# Altium integrated library WE-SPC SMD Shielded Power Inductor.IntLib: 53 symbols
Pins are listed as number, name and electrical type; pins without a type are passive.

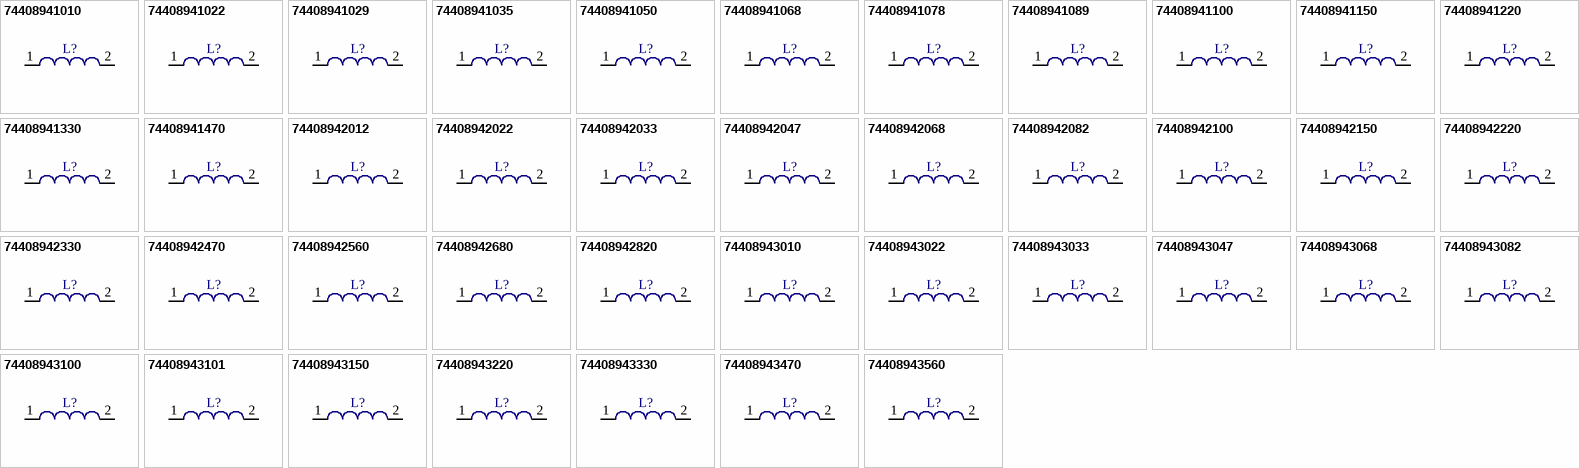
[diagram p0: symbols 74408941010 to 74408943560]

## 74408941010
designator L?
SMD Shielded Power Inductor WE-SPC, L=1.0 µH; PartNumber: 74408941010; Inductance: 1.0 µH; PackageReference: WE-SPC 4818; ComponentLink1Description: Manufacturer URL; ComponentLink1URL: http://www.we-online.com; ComponentLink2Description: Datasheet; ComponentLink2URL: http://katalog.we-online.de/kataloge/eisos/media/pdf/74408941010.pdf
footprint WE-SPC 4818 (SMD Inductor, 2- pin, Body 4.80 x 4.80mm)
pins: 1, 2

## 74408941022
designator L?
SMD Shielded Power Inductor WE-SPC, L=2.2 µH; PartNumber: 74408941022; Inductance: 2.2 µH; PackageReference: WE-SPC 4818; ComponentLink1Description: Manufacturer URL; ComponentLink1URL: http://www.we-online.com; ComponentLink2Description: Datasheet; ComponentLink2URL: http://katalog.we-online.de/kataloge/eisos/media/pdf/74408941022.pdf
footprint WE-SPC 4818 (SMD Inductor, 2- pin, Body 4.80 x 4.80mm)
pins: 1, 2

## 74408941029
designator L?
SMD Shielded Power Inductor WE-SPC, L=2.9 µH; PartNumber: 74408941029; Inductance: 2.9 µH; PackageReference: WE-SPC 4818; ComponentLink1Description: Manufacturer URL; ComponentLink1URL: http://www.we-online.com; ComponentLink2Description: Datasheet; ComponentLink2URL: http://katalog.we-online.de/kataloge/eisos/media/pdf/74408941029.pdf
footprint WE-SPC 4818 (SMD Inductor, 2- pin, Body 4.80 x 4.80mm)
pins: 1, 2

## 74408941035
designator L?
SMD Shielded Power Inductor WE-SPC, L=3.5 µH; PartNumber: 74408941035; Inductance: 3.5 µH; PackageReference: WE-SPC 4818; ComponentLink1Description: Manufacturer URL; ComponentLink1URL: http://www.we-online.com; ComponentLink2Description: Datasheet; ComponentLink2URL: http://katalog.we-online.de/kataloge/eisos/media/pdf/74408941035.pdf
footprint WE-SPC 4818 (SMD Inductor, 2- pin, Body 4.80 x 4.80mm)
pins: 1, 2

## 74408941050
designator L?
SMD Shielded Power Inductor WE-SPC, L=5.0 µH; PartNumber: 74408941050; Inductance: 5.0 µH; PackageReference: WE-SPC 4818; ComponentLink1Description: Manufacturer URL; ComponentLink1URL: http://www.we-online.com; ComponentLink2Description: Datasheet; ComponentLink2URL: http://katalog.we-online.de/kataloge/eisos/media/pdf/74408941050.pdf
footprint WE-SPC 4818 (SMD Inductor, 2- pin, Body 4.80 x 4.80mm)
pins: 1, 2

## 74408941068
designator L?
SMD Shielded Power Inductor WE-SPC, L=6.8 µH; PartNumber: 74408941068; Inductance: 6.8 µH; PackageReference: WE-SPC 4818; ComponentLink1Description: Manufacturer URL; ComponentLink1URL: http://www.we-online.com; ComponentLink2Description: Datasheet; ComponentLink2URL: http://katalog.we-online.de/kataloge/eisos/media/pdf/74408941068.pdf
footprint WE-SPC 4818 (SMD Inductor, 2- pin, Body 4.80 x 4.80mm)
pins: 1, 2

## 74408941078
designator L?
SMD Shielded Power Inductor WE-SPC, L=7.8 µH; PartNumber: 74408941078; Inductance: 7.8 µH; PackageReference: WE-SPC 4818; ComponentLink1Description: Manufacturer URL; ComponentLink1URL: http://www.we-online.com; ComponentLink2Description: Datasheet; ComponentLink2URL: http://katalog.we-online.de/kataloge/eisos/media/pdf/74408941078.pdf
footprint WE-SPC 4818 (SMD Inductor, 2- pin, Body 4.80 x 4.80mm)
pins: 1, 2

## 74408941089
designator L?
SMD Shielded Power Inductor WE-SPC, L=8.9 µH; PartNumber: 74408941089; Inductance: 7.8 µH; PackageReference: WE-SPC 4818; ComponentLink1Description: Manufacturer URL; ComponentLink1URL: http://www.we-online.com; ComponentLink2Description: Datasheet; ComponentLink2URL: http://katalog.we-online.de/kataloge/eisos/media/pdf/74408941089.pdf
footprint WE-SPC 4818 (SMD Inductor, 2- pin, Body 4.80 x 4.80mm)
pins: 1, 2

## 74408941100
designator L?
SMD Shielded Power Inductor WE-SPC, L=10 µH; PartNumber: 74408941100; Inductance: 10 µH; PackageReference: WE-SPC 4818; ComponentLink1Description: Manufacturer URL; ComponentLink1URL: http://www.we-online.com; ComponentLink2Description: Datasheet; ComponentLink2URL: http://katalog.we-online.de/kataloge/eisos/media/pdf/74408941100.pdf
footprint WE-SPC 4818 (SMD Inductor, 2- pin, Body 4.80 x 4.80mm)
pins: 1, 2

## 74408941150
designator L?
SMD Shielded Power Inductor WE-SPC, L=15 µH; PartNumber: 74408941150; Inductance: 15 µH; PackageReference: WE-SPC 4818; ComponentLink1Description: Manufacturer URL; ComponentLink1URL: http://www.we-online.com; ComponentLink2Description: Datasheet; ComponentLink2URL: http://katalog.we-online.de/kataloge/eisos/media/pdf/74408941150.pdf
footprint WE-SPC 4818 (SMD Inductor, 2- pin, Body 4.80 x 4.80mm)
pins: 1, 2

## 74408941220
designator L?
SMD Shielded Power Inductor WE-SPC, L=22 µH; PartNumber: 74408941220; Inductance: 22 µH; PackageReference: WE-SPC 4818; ComponentLink1Description: Manufacturer URL; ComponentLink1URL: http://www.we-online.com; ComponentLink2Description: Datasheet; ComponentLink2URL: http://katalog.we-online.de/kataloge/eisos/media/pdf/74408941220.pdf
footprint WE-SPC 4818 (SMD Inductor, 2- pin, Body 4.80 x 4.80mm)
pins: 1, 2

## 74408941330
designator L?
SMD Shielded Power Inductor WE-SPC, L=33 µH; PartNumber: 74408941330; Inductance: 33 µH; PackageReference: WE-SPC 4818; ComponentLink1Description: Manufacturer URL; ComponentLink1URL: http://www.we-online.com; ComponentLink2Description: Datasheet; ComponentLink2URL: http://katalog.we-online.de/kataloge/eisos/media/pdf/74408941330.pdf
footprint WE-SPC 4818 (SMD Inductor, 2- pin, Body 4.80 x 4.80mm)
pins: 1, 2

## 74408941470
designator L?
SMD Shielded Power Inductor WE-SPC, L=47 µH; PartNumber: 74408941470; Inductance: 47 µH; PackageReference: WE-SPC 4818; ComponentLink1Description: Manufacturer URL; ComponentLink1URL: http://www.we-online.com; ComponentLink2Description: Datasheet; ComponentLink2URL: http://katalog.we-online.de/kataloge/eisos/media/pdf/74408941470.pdf
footprint WE-SPC 4818 (SMD Inductor, 2- pin, Body 4.80 x 4.80mm)
pins: 1, 2

## 74408942012
designator L?
SMD Shielded Power Inductor WE-SPC, L=1.2 µH; PartNumber: 74408942012; Inductance: 1.2 µH; PackageReference: WE-SPC 4828; ComponentLink1Description: Manufacturer URL; ComponentLink1URL: http://www.we-online.com; ComponentLink2Description: Datasheet; ComponentLink2URL: http://katalog.we-online.de/kataloge/eisos/media/pdf/74408942012.pdf
footprint WE-SPC 4828 (SMD Inductor, 2- pin, Body 4.80 x 4.80mm)
pins: 1, 2

## 74408942022
designator L?
SMD Shielded Power Inductor WE-SPC, L=2.2 µH; PartNumber: 74408942022; Inductance: 2.2 µH; PackageReference: WE-SPC 4828; ComponentLink1Description: Manufacturer URL; ComponentLink1URL: http://www.we-online.com; ComponentLink2Description: Datasheet; ComponentLink2URL: http://katalog.we-online.de/kataloge/eisos/media/pdf/74408942022.pdf
footprint WE-SPC 4828 (SMD Inductor, 2- pin, Body 4.80 x 4.80mm)
pins: 1, 2

## 74408942033
designator L?
SMD Shielded Power Inductor WE-SPC, L=3.3 µH; PartNumber: 74408942033; Inductance: 3.3 µH; PackageReference: WE-SPC 4828; ComponentLink1Description: Manufacturer URL; ComponentLink1URL: http://www.we-online.com; ComponentLink2Description: Datasheet; ComponentLink2URL: http://katalog.we-online.de/kataloge/eisos/media/pdf/74408942033.pdf
footprint WE-SPC 4828 (SMD Inductor, 2- pin, Body 4.80 x 4.80mm)
pins: 1, 2

## 74408942047
designator L?
SMD Shielded Power Inductor WE-SPC, L=4.7 µH; PartNumber: 74408942047; Inductance: 4.7 µH; PackageReference: WE-SPC 4828; ComponentLink1Description: Manufacturer URL; ComponentLink1URL: http://www.we-online.com; ComponentLink2Description: Datasheet; ComponentLink2URL: http://katalog.we-online.de/kataloge/eisos/media/pdf/74408942047.pdf
footprint WE-SPC 4828 (SMD Inductor, 2- pin, Body 4.80 x 4.80mm)
pins: 1, 2

## 74408942068
designator L?
SMD Shielded Power Inductor WE-SPC, L=6.8 µH; PartNumber: 74408942068; Inductance: 6.8 µH; PackageReference: WE-SPC 4828; ComponentLink1Description: Manufacturer URL; ComponentLink1URL: http://www.we-online.com; ComponentLink2Description: Datasheet; ComponentLink2URL: http://katalog.we-online.de/kataloge/eisos/media/pdf/74408942068.pdf
footprint WE-SPC 4828 (SMD Inductor, 2- pin, Body 4.80 x 4.80mm)
pins: 1, 2

## 74408942082
designator L?
SMD Shielded Power Inductor WE-SPC, L=8.2 µH; PartNumber: 74408942082; Inductance: 8.2 µH; PackageReference: WE-SPC 4828; ComponentLink1Description: Manufacturer URL; ComponentLink1URL: http://www.we-online.com; ComponentLink2Description: Datasheet; ComponentLink2URL: http://katalog.we-online.de/kataloge/eisos/media/pdf/74408942082.pdf
footprint WE-SPC 4828 (SMD Inductor, 2- pin, Body 4.80 x 4.80mm)
pins: 1, 2

## 74408942100
designator L?
SMD Shielded Power Inductor WE-SPC, L=10 µH; PartNumber: 74408942100; Inductance: 10 µH; PackageReference: WE-SPC 4828; ComponentLink1Description: Manufacturer URL; ComponentLink1URL: http://www.we-online.com; ComponentLink2Description: Datasheet; ComponentLink2URL: http://katalog.we-online.de/kataloge/eisos/media/pdf/74408942100.pdf
footprint WE-SPC 4828 (SMD Inductor, 2- pin, Body 4.80 x 4.80mm)
pins: 1, 2

## 74408942150
designator L?
SMD Shielded Power Inductor WE-SPC, L=15 µH; PartNumber: 74408942150; Inductance: 15 µH; PackageReference: WE-SPC 4828; ComponentLink1Description: Manufacturer URL; ComponentLink1URL: http://www.we-online.com; ComponentLink2Description: Datasheet; ComponentLink2URL: http://katalog.we-online.de/kataloge/eisos/media/pdf/74408942150.pdf
footprint WE-SPC 4828 (SMD Inductor, 2- pin, Body 4.80 x 4.80mm)
pins: 1, 2

## 74408942220
designator L?
SMD Shielded Power Inductor WE-SPC, L=22 µH; PartNumber: 74408942220; Inductance: 22 µH; PackageReference: WE-SPC 4828; ComponentLink1Description: Manufacturer URL; ComponentLink1URL: http://www.we-online.com; ComponentLink2Description: Datasheet; ComponentLink2URL: http://katalog.we-online.de/kataloge/eisos/media/pdf/74408942220.pdf
footprint WE-SPC 4828 (SMD Inductor, 2- pin, Body 4.80 x 4.80mm)
pins: 1, 2

## 74408942330
designator L?
SMD Shielded Power Inductor WE-SPC, L=33 µH; PartNumber: 74408942330; Inductance: 33 µH; PackageReference: WE-SPC 4828; ComponentLink1Description: Manufacturer URL; ComponentLink1URL: http://www.we-online.com; ComponentLink2Description: Datasheet; ComponentLink2URL: http://katalog.we-online.de/kataloge/eisos/media/pdf/74408942330.pdf
footprint WE-SPC 4828 (SMD Inductor, 2- pin, Body 4.80 x 4.80mm)
pins: 1, 2

## 74408942470
designator L?
SMD Shielded Power Inductor WE-SPC, L=47 µH; PartNumber: 74408942470; Inductance: 47 µH; PackageReference: WE-SPC 4828; ComponentLink1Description: Manufacturer URL; ComponentLink1URL: http://www.we-online.com; ComponentLink2Description: Datasheet; ComponentLink2URL: http://katalog.we-online.de/kataloge/eisos/media/pdf/74408942470.pdf
footprint WE-SPC 4828 (SMD Inductor, 2- pin, Body 4.80 x 4.80mm)
pins: 1, 2

## 74408942560
designator L?
SMD Shielded Power Inductor WE-SPC, L=56 µH; PartNumber: 74408942560; Inductance: 56 µH; PackageReference: WE-SPC 4828; ComponentLink1Description: Manufacturer URL; ComponentLink1URL: http://www.we-online.com; ComponentLink2Description: Datasheet; ComponentLink2URL: http://katalog.we-online.de/kataloge/eisos/media/pdf/74408942560.pdf
footprint WE-SPC 4828 (SMD Inductor, 2- pin, Body 4.80 x 4.80mm)
pins: 1, 2

## 74408942680
designator L?
SMD Shielded Power Inductor WE-SPC, L=68 µH; PartNumber: 74408942680; Inductance: 68 µH; PackageReference: WE-SPC 4828; ComponentLink1Description: Manufacturer URL; ComponentLink1URL: http://www.we-online.com; ComponentLink2Description: Datasheet; ComponentLink2URL: http://katalog.we-online.de/kataloge/eisos/media/pdf/74408942680.pdf
footprint WE-SPC 4828 (SMD Inductor, 2- pin, Body 4.80 x 4.80mm)
pins: 1, 2

## 74408942820
designator L?
SMD Shielded Power Inductor WE-SPC, L=82 µH; PartNumber: 74408942820; Inductance: 82 µH; PackageReference: WE-SPC 4828; ComponentLink1Description: Manufacturer URL; ComponentLink1URL: http://www.we-online.com; ComponentLink2Description: Datasheet; ComponentLink2URL: http://katalog.we-online.de/kataloge/eisos/media/pdf/74408942820.pdf
footprint WE-SPC 4828 (SMD Inductor, 2- pin, Body 4.80 x 4.80mm)
pins: 1, 2

## 74408943010
designator L?
SMD Shielded Power Inductor WE-SPC, L=1.0 µH; PartNumber: 74408943010; Inductance: 1.0 µH; PackageReference: WE-SPC 4838; ComponentLink1Description: Manufacturer URL; ComponentLink1URL: http://www.we-online.com; ComponentLink2Description: Datasheet; ComponentLink2URL: http://katalog.we-online.de/kataloge/eisos/media/pdf/74408943010.pdf
footprint WE-SPC 4838 (SMD Inductor, 2- pin, Body 4.80 x 4.80mm)
pins: 1, 2

## 74408943022
designator L?
SMD Shielded Power Inductor WE-SPC, L=2.2 µH; PartNumber: 74408943022; Inductance: 2.2 µH; PackageReference: WE-SPC 4838; ComponentLink1Description: Manufacturer URL; ComponentLink1URL: http://www.we-online.com; ComponentLink2Description: Datasheet; ComponentLink2URL: http://katalog.we-online.de/kataloge/eisos/media/pdf/74408943022.pdf
footprint WE-SPC 4838 (SMD Inductor, 2- pin, Body 4.80 x 4.80mm)
pins: 1, 2

## 74408943033
designator L?
SMD Shielded Power Inductor WE-SPC, L=3.3 µH; PartNumber: 74408943033; Inductance: 3.3 µH; PackageReference: WE-SPC 4838; ComponentLink1Description: Manufacturer URL; ComponentLink1URL: http://www.we-online.com; ComponentLink2Description: Datasheet; ComponentLink2URL: http://katalog.we-online.de/kataloge/eisos/media/pdf/74408943033.pdf
footprint WE-SPC 4838 (SMD Inductor, 2- pin, Body 4.80 x 4.80mm)
pins: 1, 2

## 74408943047
designator L?
SMD Shielded Power Inductor WE-SPC, L=4.7 µH; PartNumber: 74408943047; Inductance: 4.7 µH; PackageReference: WE-SPC 4838; ComponentLink1Description: Manufacturer URL; ComponentLink1URL: http://www.we-online.com; ComponentLink2Description: Datasheet; ComponentLink2URL: http://katalog.we-online.de/kataloge/eisos/media/pdf/74408943047.pdf
footprint WE-SPC 4838 (SMD Inductor, 2- pin, Body 4.80 x 4.80mm)
pins: 1, 2

## 74408943068
designator L?
SMD Shielded Power Inductor WE-SPC, L=6.8 µH; PartNumber: 74408943068; Inductance: 6.8 µH; PackageReference: WE-SPC 4838; ComponentLink1Description: Manufacturer URL; ComponentLink1URL: http://www.we-online.com; ComponentLink2Description: Datasheet; ComponentLink2URL: http://katalog.we-online.de/kataloge/eisos/media/pdf/74408943068.pdf
footprint WE-SPC 4838 (SMD Inductor, 2- pin, Body 4.80 x 4.80mm)
pins: 1, 2

## 74408943082
designator L?
SMD Shielded Power Inductor WE-SPC, L=8.2 µH; PartNumber: 74408943082; Inductance: 8.2 µH; PackageReference: WE-SPC 4838; ComponentLink1Description: Manufacturer URL; ComponentLink1URL: http://www.we-online.com; ComponentLink2Description: Datasheet; ComponentLink2URL: http://katalog.we-online.de/kataloge/eisos/media/pdf/74408943082.pdf
footprint WE-SPC 4838 (SMD Inductor, 2- pin, Body 4.80 x 4.80mm)
pins: 1, 2

## 74408943100
designator L?
SMD Shielded Power Inductor WE-SPC, L=10 µH; PartNumber: 74408943100; Inductance: 10 µH; PackageReference: WE-SPC 4838; ComponentLink1Description: Manufacturer URL; ComponentLink1URL: http://www.we-online.com; ComponentLink2Description: Datasheet; ComponentLink2URL: http://katalog.we-online.de/kataloge/eisos/media/pdf/74408943100.pdf
footprint WE-SPC 4838 (SMD Inductor, 2- pin, Body 4.80 x 4.80mm)
pins: 1, 2

## 74408943101
designator L?
SMD Shielded Power Inductor WE-SPC, L=100 µH; PartNumber: 74408943101; Inductance: 100 µH; PackageReference: WE-SPC 4838; ComponentLink1Description: Manufacturer URL; ComponentLink1URL: http://www.we-online.com; ComponentLink2Description: Datasheet; ComponentLink2URL: http://katalog.we-online.de/kataloge/eisos/media/pdf/74408943101.pdf
footprint WE-SPC 4838 (SMD Inductor, 2- pin, Body 4.80 x 4.80mm)
pins: 1, 2

## 74408943150
designator L?
SMD Shielded Power Inductor WE-SPC, L=15 µH; PartNumber: 74408943150; Inductance: 15 µH; PackageReference: WE-SPC 4838; ComponentLink1Description: Manufacturer URL; ComponentLink1URL: http://www.we-online.com; ComponentLink2Description: Datasheet; ComponentLink2URL: http://katalog.we-online.de/kataloge/eisos/media/pdf/74408943150.pdf
footprint WE-SPC 4838 (SMD Inductor, 2- pin, Body 4.80 x 4.80mm)
pins: 1, 2

## 74408943220
designator L?
SMD Shielded Power Inductor WE-SPC, L=22 µH; PartNumber: 74408943220; Inductance: 22 µH; PackageReference: WE-SPC 4838; ComponentLink1Description: Manufacturer URL; ComponentLink1URL: http://www.we-online.com; ComponentLink2Description: Datasheet; ComponentLink2URL: http://katalog.we-online.de/kataloge/eisos/media/pdf/74408943220.pdf
footprint WE-SPC 4838 (SMD Inductor, 2- pin, Body 4.80 x 4.80mm)
pins: 1, 2

## 74408943330
designator L?
SMD Shielded Power Inductor WE-SPC, L=33 µH; PartNumber: 74408943330; Inductance: 33 µH; PackageReference: WE-SPC 4838; ComponentLink1Description: Manufacturer URL; ComponentLink1URL: http://www.we-online.com; ComponentLink2Description: Datasheet; ComponentLink2URL: http://katalog.we-online.de/kataloge/eisos/media/pdf/74408943330.pdf
footprint WE-SPC 4838 (SMD Inductor, 2- pin, Body 4.80 x 4.80mm)
pins: 1, 2

## 74408943470
designator L?
SMD Shielded Power Inductor WE-SPC, L=47 µH; PartNumber: 74408943470; Inductance: 47 µH; PackageReference: WE-SPC 4838; ComponentLink1Description: Manufacturer URL; ComponentLink1URL: http://www.we-online.com; ComponentLink2Description: Datasheet; ComponentLink2URL: http://katalog.we-online.de/kataloge/eisos/media/pdf/74408943470.pdf
footprint WE-SPC 4838 (SMD Inductor, 2- pin, Body 4.80 x 4.80mm)
pins: 1, 2

## 74408943560
designator L?
SMD Shielded Power Inductor WE-SPC, L=56 µH; PartNumber: 74408943560; Inductance: 56 µH; PackageReference: WE-SPC 4838; ComponentLink1Description: Manufacturer URL; ComponentLink1URL: http://www.we-online.com; ComponentLink2Description: Datasheet; ComponentLink2URL: http://katalog.we-online.de/kataloge/eisos/media/pdf/74408943560.pdf
footprint WE-SPC 4838 (SMD Inductor, 2- pin, Body 4.80 x 4.80mm)
pins: 1, 2

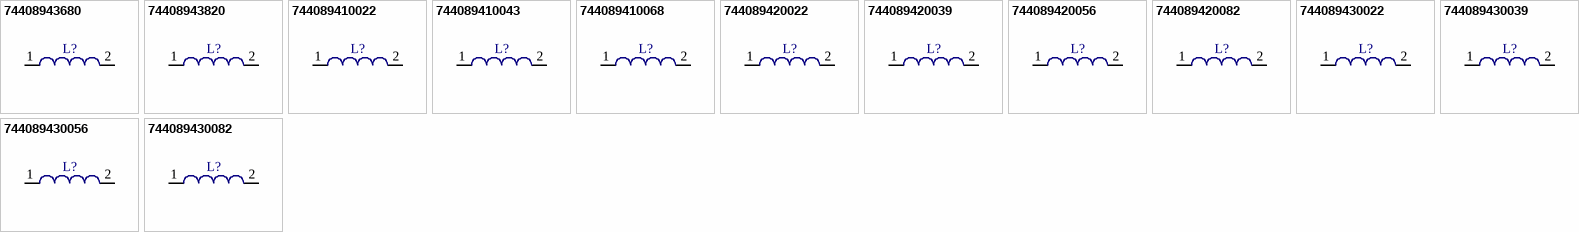
[diagram p1: symbols 74408943680 to 744089430082]

## 74408943680
designator L?
SMD Shielded Power Inductor WE-SPC, L=68 µH; PartNumber: 74408943680; Inductance: 68 µH; PackageReference: WE-SPC 4838; ComponentLink1Description: Manufacturer URL; ComponentLink1URL: http://www.we-online.com; ComponentLink2Description: Datasheet; ComponentLink2URL: http://katalog.we-online.de/kataloge/eisos/media/pdf/74408943680.pdf
footprint WE-SPC 4838 (SMD Inductor, 2- pin, Body 4.80 x 4.80mm)
pins: 1, 2

## 74408943820
designator L?
SMD Shielded Power Inductor WE-SPC, L=82 µH; PartNumber: 74408943820; Inductance: 82 µH; PackageReference: WE-SPC 4838; ComponentLink1Description: Manufacturer URL; ComponentLink1URL: http://www.we-online.com; ComponentLink2Description: Datasheet; ComponentLink2URL: http://katalog.we-online.de/kataloge/eisos/media/pdf/74408943820.pdf
footprint WE-SPC 4838 (SMD Inductor, 2- pin, Body 4.80 x 4.80mm)
pins: 1, 2

## 744089410022
designator L?
SMD Shielded Power Inductor WE-SPC, L=0.22 µH; PartNumber: 744089410022; Inductance: 0.22 µH; PackageReference: WE-SPC 4818; ComponentLink1Description: Manufacturer URL; ComponentLink1URL: http://www.we-online.com; ComponentLink2Description: Datasheet; ComponentLink2URL: http://katalog.we-online.de/kataloge/eisos/media/pdf/744089410022.pdf
footprint WE-SPC 4818 (SMD Inductor, 2- pin, Body 4.80 x 4.80mm)
pins: 1, 2

## 744089410043
designator L?
SMD Shielded Power Inductor WE-SPC, L=0.43 µH; PartNumber: 744089410043; Inductance: 0.43 µH; PackageReference: WE-SPC 4818; ComponentLink1Description: Manufacturer URL; ComponentLink1URL: http://www.we-online.com; ComponentLink2Description: Datasheet; ComponentLink2URL: http://katalog.we-online.de/kataloge/eisos/media/pdf/744089410043.pdf
footprint WE-SPC 4818 (SMD Inductor, 2- pin, Body 4.80 x 4.80mm)
pins: 1, 2

## 744089410068
designator L?
SMD Shielded Power Inductor WE-SPC, L=0.68 µH; PartNumber: 744089410068; Inductance: 0.68 µH; PackageReference: WE-SPC 4818; ComponentLink1Description: Manufacturer URL; ComponentLink1URL: http://www.we-online.com; ComponentLink2Description: Datasheet; ComponentLink2URL: http://katalog.we-online.de/kataloge/eisos/media/pdf/744089410068.pdf
footprint WE-SPC 4818 (SMD Inductor, 2- pin, Body 4.80 x 4.80mm)
pins: 1, 2

## 744089420022
designator L?
SMD Shielded Power Inductor WE-SPC, L=0.22 µH; PartNumber: 744089420022; Inductance: 0.22 µH; PackageReference: WE-SPC 4828; ComponentLink1Description: Manufacturer URL; ComponentLink1URL: http://www.we-online.com; ComponentLink2Description: Datasheet; ComponentLink2URL: http://katalog.we-online.de/kataloge/eisos/media/pdf/744089420022.pdf
footprint WE-SPC 4828 (SMD Inductor, 2- pin, Body 4.80 x 4.80mm)
pins: 1, 2

## 744089420039
designator L?
SMD Shielded Power Inductor WE-SPC, L=0.39 µH; PartNumber: 744089420039; Inductance: 0.39 µH; PackageReference: WE-SPC 4828; ComponentLink1Description: Manufacturer URL; ComponentLink1URL: http://www.we-online.com; ComponentLink2Description: Datasheet; ComponentLink2URL: http://katalog.we-online.de/kataloge/eisos/media/pdf/744089420039.pdf
footprint WE-SPC 4828 (SMD Inductor, 2- pin, Body 4.80 x 4.80mm)
pins: 1, 2

## 744089420056
designator L?
SMD Shielded Power Inductor WE-SPC, L=0.56 µH; PartNumber: 744089420056; Inductance: 0.56 µH; PackageReference: WE-SPC 4828; ComponentLink1Description: Manufacturer URL; ComponentLink1URL: http://www.we-online.com; ComponentLink2Description: Datasheet; ComponentLink2URL: http://katalog.we-online.de/kataloge/eisos/media/pdf/744089420056.pdf
footprint WE-SPC 4828 (SMD Inductor, 2- pin, Body 4.80 x 4.80mm)
pins: 1, 2

## 744089420082
designator L?
SMD Shielded Power Inductor WE-SPC, L=0.82 µH; PartNumber: 744089420082; Inductance: 0.82 µH; PackageReference: WE-SPC 4828; ComponentLink1Description: Manufacturer URL; ComponentLink1URL: http://www.we-online.com; ComponentLink2Description: Datasheet; ComponentLink2URL: http://katalog.we-online.de/kataloge/eisos/media/pdf/744089420082.pdf
footprint WE-SPC 4828 (SMD Inductor, 2- pin, Body 4.80 x 4.80mm)
pins: 1, 2

## 744089430022
designator L?
SMD Shielded Power Inductor WE-SPC, L=0.22 µH; PartNumber: 744089430022; Inductance: 0.22 µH; PackageReference: WE-SPC 4838; ComponentLink1Description: Manufacturer URL; ComponentLink1URL: http://www.we-online.com; ComponentLink2Description: Datasheet; ComponentLink2URL: http://katalog.we-online.de/kataloge/eisos/media/pdf/744089430022.pdf
footprint WE-SPC 4838 (SMD Inductor, 2- pin, Body 4.80 x 4.80mm)
pins: 1, 2

## 744089430039
designator L?
SMD Shielded Power Inductor WE-SPC, L=0.39 µH; PartNumber: 744089430039; Inductance: 0.39 µH; PackageReference: WE-SPC 4838; ComponentLink1Description: Manufacturer URL; ComponentLink1URL: http://www.we-online.com; ComponentLink2Description: Datasheet; ComponentLink2URL: http://katalog.we-online.de/kataloge/eisos/media/pdf/744089430039.pdf
footprint WE-SPC 4838 (SMD Inductor, 2- pin, Body 4.80 x 4.80mm)
pins: 1, 2

## 744089430056
designator L?
SMD Shielded Power Inductor WE-SPC, L=0.56 µH; PartNumber: 744089430056; Inductance: 0.56 µH; PackageReference: WE-SPC 4838; ComponentLink1Description: Manufacturer URL; ComponentLink1URL: http://www.we-online.com; ComponentLink2Description: Datasheet; ComponentLink2URL: http://katalog.we-online.de/kataloge/eisos/media/pdf/744089430056.pdf
footprint WE-SPC 4838 (SMD Inductor, 2- pin, Body 4.80 x 4.80mm)
pins: 1, 2

## 744089430082
designator L?
SMD Shielded Power Inductor WE-SPC, L=0.82 µH; PartNumber: 744089430082; Inductance: 0.82 µH; PackageReference: WE-SPC 4838; ComponentLink1Description: Manufacturer URL; ComponentLink1URL: http://www.we-online.com; ComponentLink2Description: Datasheet; ComponentLink2URL: http://katalog.we-online.de/kataloge/eisos/media/pdf/744089430082.pdf
footprint WE-SPC 4838 (SMD Inductor, 2- pin, Body 4.80 x 4.80mm)
pins: 1, 2